# EAGLE library part AS6212 (library as6212)
AMS AS6212 Low-Power Digital Temperature Sensor The AS621x IC family is a high accuracy temperature sensor system that communicates via a 2-wire digital bus with other devices. It consists of a Si bandgap temperature sensor, an ADC and a digital signal processor. Datasheet <https://ams.com/documents/20143/36005/AS621x_DS000677_2-00.pdf> SparkFun Products SparkFun Digital Temperature Sensor Breakout - AS6212 (Qwiic) <https://www.sparkfun.com/products/18521> (SEN-18521)
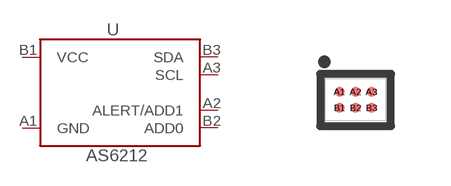
[diagram p0: symbol with the pads of WLCSP; footprint WLCSP]

Designator prefix U

## AS6212WLCSP (PROD_ID: IC-16171; VALUE: AS6212)  [WLCSP]
A1  GND
A2  ALERT/ADD1
A3  SCL
B1  VCC
B2  ADD0
B3  SDA

## Footprint WLCSP (pad centres in mm)
smd 0.25 x 0.25: A1 -0.4,0.2; A2 0,0.2; A3 0.4,0.2; B1 -0.4,-0.2; B2 0,-0.2; B3 0.4,-0.2